# Altium footprint library PcbLib1.PcbLib: 1 footprints
Each footprint in its own frame and in the unit in brackets; x right, y up, seen from the top. Pads: shape width x height; smd on the part's side, far side on the other; paste and mask are expansions set on the pad; w line width, h text height; cw(c..) or ccw(c..) is an arc to the next point about the centre after c.
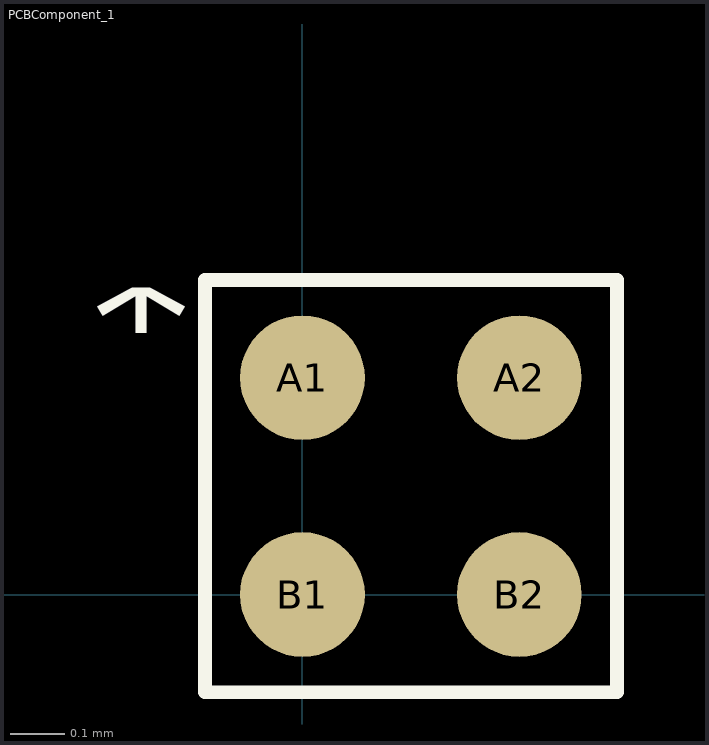
[diagram p0: the footprint, top view; thin cyan lines are the x and y axes]

## PCBComponent_1 [mm]
pads (4):
  round 0.23 smd mask+0: A1(0,0.4) A2(0.4,0.4) B1(0,0) B2(0.4,0)
Top Overlay:
  lines w0.025: -0.18,-0.18 0.58,-0.18 0.58,0.58 -0.18,0.58 -0.18,-0.18
  text "*" at -0.39,0.232 h0.76
3D body: height 0.66, standoff 0.2, extent -0.18,-0.18 0.58,0.58